# Altium footprint library Switch.PcbLib: 25 footprints (part 1 of 2)
Each footprint in its own frame and in the unit in brackets; x right, y up, seen from the top. Pads: shape width x height; smd on the part's side, far side on the other; paste and mask are expansions set on the pad; w line width, h text height; cw(c..) or ccw(c..) is an arc to the next point about the centre after c.
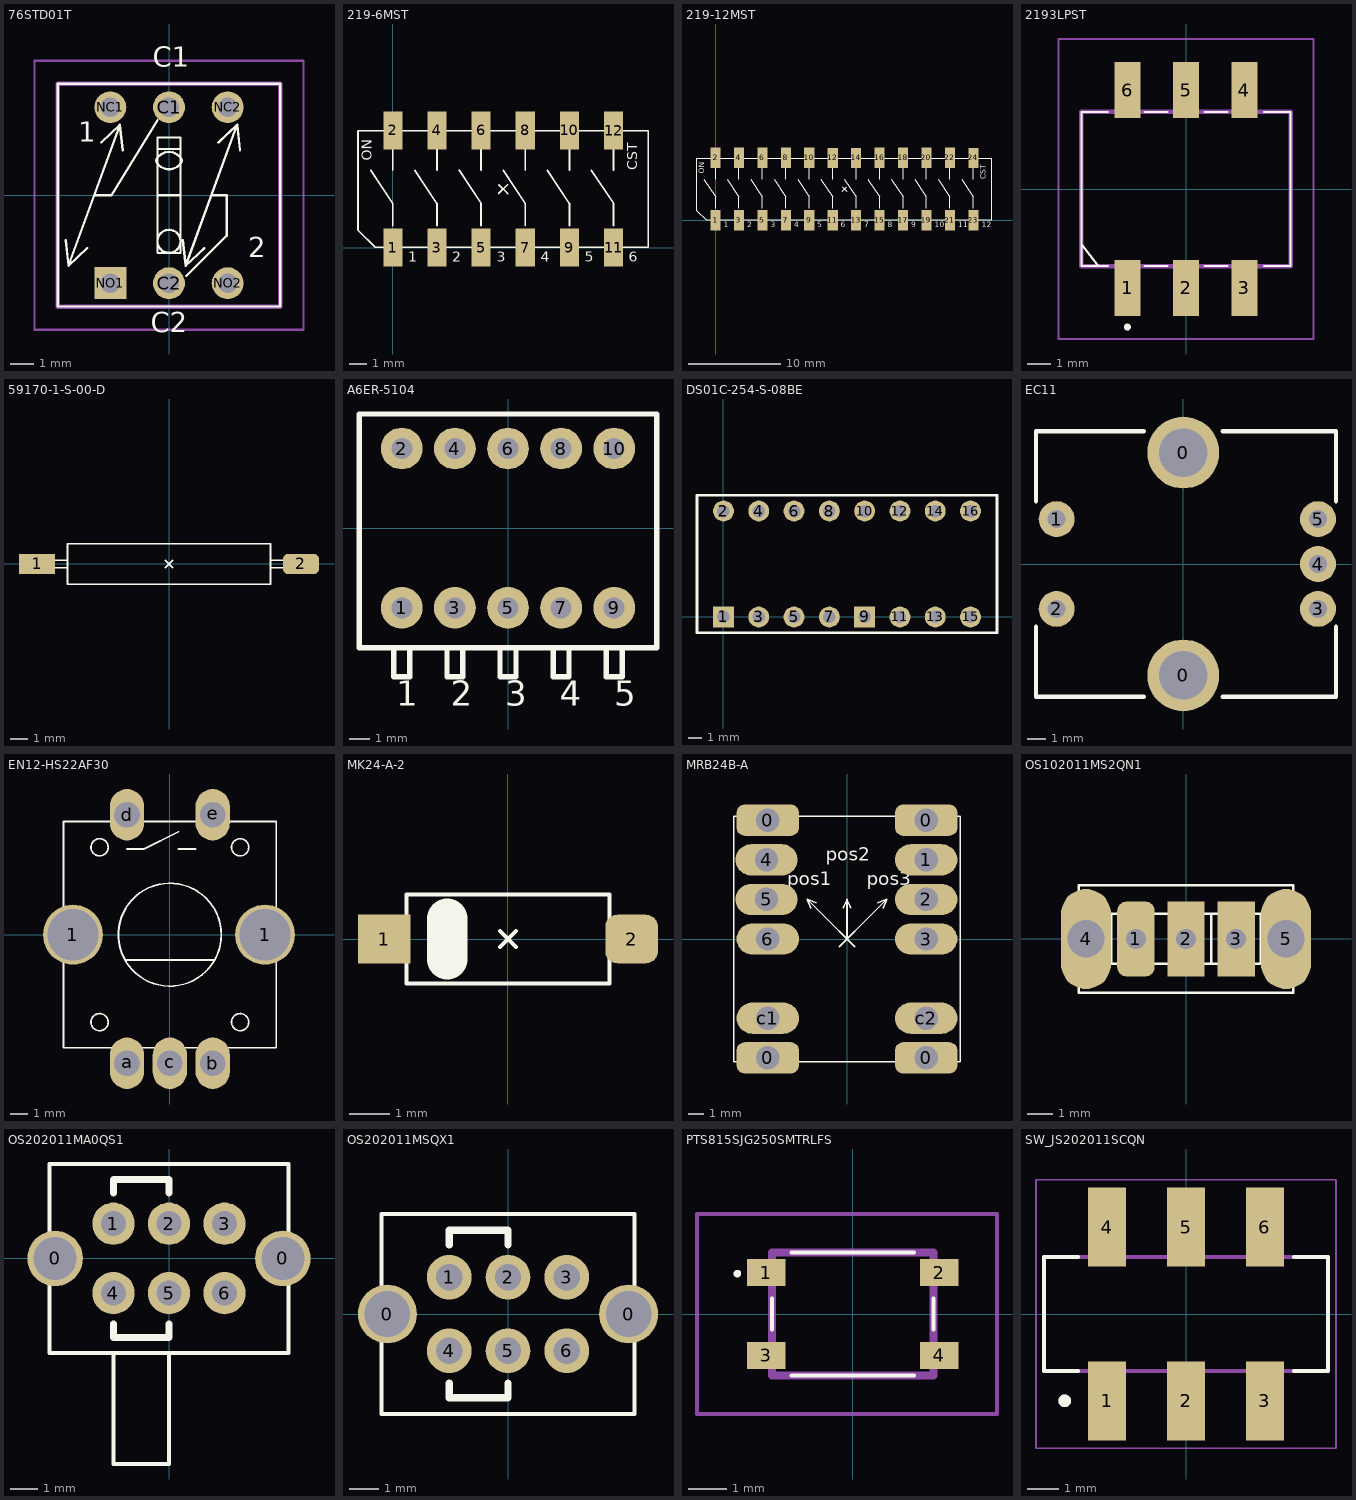
[diagram p0: the footprints below, top view; thin cyan lines are the x and y axes]

## 76STD01T [mm]
pads (6):
  round 1.381 hole 0.85: C1(0,3.81) C2(0,-3.81) NC1(-2.54,3.81) NC2(2.54,3.81) NO2(2.54,-3.81)
  rect 1.381x1.381 hole 0.85: NO1(-2.54,-3.81)
Top Overlay:
  circle w0.1: c0,-2 r0.5
  lines w0.1: -4.479,-1.943 -4.352,-3.054 ; -3.54,-2.285 -4.352,-3.054 ; -3.25,0 -2.5,0 -0.5,3.25 ; -2.94,2.285 -2.128,3.054 ; -2.001,1.943 -2.128,3.054 ; -0.5,0 0.5,0 ; -0.5,2 0.5,2 ; 0.601,-1.943 0.728,-3.054 ; 0.75,-3.5 2.5,-1.75 2.5,0 1.84,0 ; 1.54,-2.285 0.728,-3.054 ; 2.14,2.285 2.952,3.054 ; 3.079,1.943 2.952,3.054 ; -4.352,-3.054 -2.128,3.054 ; 0.728,-3.054 2.952,3.054 ; -4.825,-4.825 -4.825,4.825 4.825,4.825 4.825,-4.825 -4.825,-4.825 ; -0.5,-2.5 0.5,-2.5 0.5,2.5 -0.5,2.5 -0.5,-2.5 ; -0.5,1.375 ccw(c0,1.75) 0.5,1.375 ccw(c0.375,1.5) 0.5,1.625 ccw(c0,1.25) -0.5,1.625 ccw(c-0.375,1.5) -0.5,1.375
  text "С2" at -0.789,-6.231 h1.5
  text "С1" at -0.701,5.269 h1.5
  text "2" at 3.432,-2.982 h1.5
  text "1" at -3.927,2.018 h1.5
Mechanical 13:
  lines w0.2: -4.825,-4.825 -4.825,4.825 4.825,4.825 4.825,-4.825 -4.825,-4.825
Mechanical 15:
  lines w0.1: -5.825,-5.825 -5.825,5.825 5.825,5.825 5.825,-5.825 -5.825,-5.825
3D body "series76-toggle-dip.stp": height 11.8, standoff -3.46, extent -4.821,-4.819 4.829,4.831

## 219-6MST [mm]
pads (12):
  rect 1.1x2.2 smd: 1(0,0) 2(0,6.74) 3(2.54,0) 4(2.54,6.74) 5(5.08,0) 6(5.08,6.74) 7(7.62,0) 8(7.62,6.74) 9(10.16,0) 10(10.16,6.74) 11(12.7,0) 12(12.7,6.73)
Top Overlay:
  lines w0.1: -1.27,4.445 0,2.54 0,1.27 ; 0,4.445 0,5.715 ; 1.27,4.445 2.54,2.54 2.54,1.27 ; 2.54,4.445 2.54,5.715 ; 3.81,4.445 5.08,2.54 5.08,1.27 ; 5.08,4.445 5.08,5.715 ; 6.1,3.115 6.6,3.615 ; 6.1,3.615 6.6,3.115 ; 6.35,4.445 7.62,2.54 7.62,1.27 ; 7.62,4.445 7.62,5.715 ; 8.89,4.445 10.16,2.54 10.16,1.27 ; 10.16,4.445 10.16,5.715 ; 11.43,4.445 12.7,2.54 12.7,1.27 ; 12.7,4.445 12.7,5.715 ; -2.005,1.005 -2.005,6.715 14.705,6.715 14.705,0.015 -1.015,0.015 -2.005,1.005
  text "ON" at -1,5 h1
  text "1" at 0.889,-1.016 h1
  text "2" at 3.429,-1.016 h1
  text "3" at 5.969,-1.016 h1
  text "4" at 8.509,-1.016 h1
  text "5" at 11.049,-1.016 h1
  text "6" at 13.589,-1.016 h1
  text "CST" at 14.26,4.445 h1
3D body "CT2196MST-ND.stp": height 3.8, standoff 0, extent -2.005,-1.59 14.705,8.32

## 219-12MST [mm] "SWITCH SLIDE DIP SPST 100MA 20V"
height 4.33
pads (24):
  rect 1.1x2.2 smd: 1(0,0) 2(0,6.74) 3(2.54,0) 4(2.54,6.74) 5(5.08,0) 6(5.08,6.74) 7(7.62,0) 8(7.62,6.74) 9(10.16,0) 10(10.16,6.74) 11(12.7,0) 12(12.7,6.73) 13(15.24,0) 14(15.24,6.73) 15(17.78,0) 16(17.78,6.74) 17(20.32,0) 18(20.32,6.74) 19(22.86,0) 20(22.86,6.74) 21(25.4,0) 22(25.4,6.74) 23(27.94,0) 24(27.94,6.73)
Top Overlay:
  lines w0.1: -1.27,4.445 0,2.54 0,1.27 ; 0,4.445 0,5.715 ; 1.27,4.445 2.54,2.54 2.54,1.27 ; 2.54,4.445 2.54,5.715 ; 3.81,4.445 5.08,2.54 5.08,1.27 ; 5.08,4.445 5.08,5.715 ; 6.35,4.445 7.62,2.54 7.62,1.27 ; 7.62,4.445 7.62,5.715 ; 8.89,4.445 10.16,2.54 10.16,1.27 ; 10.16,4.445 10.16,5.715 ; 11.43,4.445 12.7,2.54 12.7,1.27 ; 12.7,4.445 12.7,5.715 ; 13.72,3.115 14.22,3.615 ; 13.72,3.615 14.22,3.115 ; 13.97,4.445 15.24,2.54 15.24,1.27 ; 15.24,4.445 15.24,5.715 ; 16.51,4.445 17.78,2.54 17.78,1.27 ; 17.78,4.445 17.78,5.715 ; 19.05,4.445 20.32,2.54 20.32,1.27 ; 20.32,4.445 20.32,5.715 ; 21.59,4.445 22.86,2.54 22.86,1.27 ; 22.86,4.445 22.86,5.715 ; 24.13,4.445 25.4,2.54 25.4,1.27 ; 25.4,4.445 25.4,5.715 ; 26.67,4.445 27.94,2.54 27.94,1.27 ; 27.94,4.445 27.94,5.715 ; -2.005,1.005 -1.015,0.015 29.945,0.015 29.945,6.715 -2.005,6.715 -2.005,1.005
  text "12" at 28.829,-1.016 h1
  text "11" at 26.289,-1.016 h1
  text "10" at 23.749,-1.016 h1
  text "9" at 21.209,-1.016 h1
  text "8" at 18.669,-1.016 h1
  text "7" at 16.129,-1.016 h1
  text "6" at 13.589,-1.016 h1
  text "5" at 11.049,-1.016 h1
  text "4" at 8.509,-1.016 h1
  text "3" at 5.969,-1.016 h1
  text "2" at 3.429,-1.016 h1
  text "1" at 0.889,-1.016 h1
  text "CST" at 29.5,4.445 h1
  text "ON" at -1,5 h1

## 2193LPST [mm]
pads (6):
  rect 1.13x2.44 smd: 1(-2.54,-4.3) 2(0,-4.3) 3(2.54,-4.3) 4(2.54,4.3) 5(0,4.3) 6(-2.54,4.3)
Top Overlay:
  lines w0.1: -4.545,-2.4 -3.8,-3.35 ; -4.545,-3.35 -3.4,-3.35 -4.545,-3.35 ; -4.545,-3.35 -4.545,3.35 ; -4.545,-3.35 -4.545,3.35 ; -4.545,3.35 -3.4,3.35 -4.545,3.35 ; 4.545,-3.35 3.4,-3.35 4.545,-3.35 ; 4.545,-3.35 4.545,3.35 ; 4.545,-3.35 4.545,3.35 ; 4.545,3.35 3.4,3.35 4.545,3.35 ; -1.8,-3.35 -0.8,-3.35 -1.8,-3.35 ; -1.8,3.35 -0.8,3.35 -1.8,3.35 ; 0.8,-3.35 1.8,-3.35 0.8,-3.35 ; 0.8,3.35 1.8,3.35 0.8,3.35
  lines w0.2: -2.6,-6 ccw(c-2.55,-6) -2.5,-6 ; -2.6,-6 cw(c-2.55,-6) -2.5,-6 ; -2.6,-6 ccw(c-2.55,-6) -2.5,-6
Mechanical 13:
  lines w0.2: -4.545,-3.35 -4.545,3.35 4.545,3.35 4.545,-3.35 -4.545,-3.35
Mechanical 15:
  lines w0.1: -5.545,-6.52 -5.545,6.52 5.545,6.52 5.545,-6.52 -5.545,-6.52
3D body "219-3poles.stp": height 4.28, standoff -0.02, extent -4.545,-4.955 4.545,4.955

## 59170-1-S-00-D [mm]
height 2.29
pads (2):
  rect 2.03x1.14 smd: 1(-7.425,0)
  rrect50% 2.03x1.14 smd: 2(7.425,0)
Top Overlay:
  lines w0.1: -0.2,-0.2 0.2,0.2 ; -0.2,0.2 0.2,-0.2 ; -8.125,-0.215 -8.125,0.215 -5.715,0.215 -5.715,-0.215 -8.125,-0.215 ; -5.715,-1.145 5.715,-1.145 5.715,1.145 -5.715,1.145 -5.715,-1.145 ; 5.715,-0.215 8.125,-0.215 8.125,0.215 5.715,0.215 5.715,-0.215
3D body: height 2.29, standoff 0, extent -5.715,-1.145 5.715,1.145

## A6ER-5104 [mm] "SWITCH PIANO DIP SPST 25MA 24V"
height 10.2
pads (10):
  round 2 hole 1: 1(-5.08,-3.81) 2(-5.08,3.81) 3(-2.54,-3.81) 4(-2.54,3.81) 5(0,-3.81) 6(0,3.81) 7(2.54,-3.81) 8(2.54,3.81) 9(5.08,-3.81) 10(5.08,3.81)
Top Overlay:
  lines w0.254: -5.461,-5.715 -5.461,-7.112 -4.699,-7.112 -4.699,-5.715 ; -2.921,-5.715 -2.921,-7.112 -2.159,-7.112 -2.159,-5.715 ; -0.381,-5.715 -0.381,-7.112 0.381,-7.112 0.381,-5.715 ; 2.159,-5.715 2.159,-7.112 2.921,-7.112 2.921,-5.715 ; 4.699,-5.715 4.699,-7.112 5.461,-7.112 5.461,-5.715 ; -7.112,-5.715 7.112,-5.715 7.112,5.461 -7.112,5.461 -7.112,-5.715
  text "1   2   3   4   5" at -5.334,-8.89 h2.03
3D body "19643.stp": height 11.4, standoff -2, extent -7.13,-7.2 7.13,5.4

## DS01C-254-S-08BE [mm]
pads (16):
  rect 1.5x1.5 hole 0.9: 1(0,0) 9(10.16,0)
  round 1.5 hole 0.9: 2(0,7.62) 3(2.54,0) 4(2.54,7.62) 5(5.08,0) 6(5.08,7.62) 7(7.62,0) 8(7.62,7.62) 10(10.16,7.62) 11(12.7,0) 12(12.7,7.62) 13(15.24,0) 14(15.24,7.62) 15(17.78,0) 16(17.78,7.62)
Top Overlay:
  lines w0.2: 8.255,-1.14 19.685,-1.14 19.685,8.76 8.255,8.76 ; 9.525,-1.14 -1.905,-1.14 -1.905,8.76 9.525,8.76
3D body "SWD1-4.step": height 7, standoff -3.7, extent 8.39,-1.14 19.55,8.76
3D body "SWD1-4.step": height 7, standoff -3.7, extent -1.77,-1.14 9.39,8.76

## EC11 [mm]
pads (7):
  round 4 hole 2.7: 0(0,-6.2) 0(0,6.2)
  round 2 hole 1: 1(-7.05,2.5) 2(-7.05,-2.5) 3(7.5,-2.5) 4(7.5,0) 5(7.5,2.5)
Top Overlay:
  lines w0.25: -8.2,-3.5 -8.2,-7.4 -2.2,-7.4 ; -8.2,3.5 -8.2,7.4 -2.2,7.4 ; 2.2,-7.4 8.5,-7.4 8.5,-3.5 ; 2.2,7.4 8.5,7.4 8.5,3.5
3D body "User Library-EC11B15244.STEP": height 31.6, standoff -3.47, extent -7.4,-6.549 7.726,6.549

## EN12-HS22AF30 [mm]
pads (7):
  round 3.5 hole 3: 1(-5.65,0) 1(5.55,0)
  oval 2x3 hole 1.5: a(-2.5,-7.5) b(2.5,-7.5) c(0,-7.5) d(-2.5,7) e(2.5,7)
Top Layer:
  lines w0.254: -6.6,0.95 -4.6,-1.05 ; -6.6,0.95 -6.6,1.05 ; -6.6,0.95 -6.6,1.05 ; -6.6,1.05 -4.6,1.05 -4.6,-1.05 ; -6.6,1.05 -6.6,-1.05 -4.6,-1.05 ; 4.6,0.95 4.6,1.05 ; 4.6,0.95 4.6,1.05 ; 4.6,0.95 6.6,-1.05 ; 4.6,1.05 4.6,-1.05 6.6,-1.05 ; 4.6,1.05 6.6,1.05 6.6,-1.05
Top Overlay:
  circle w0.1: c0,0 r3
  circle w0.1: c4.1,-5.1 r0.5
  circle w0.1: c-4.1,-5.1 r0.5
  circle w0.1: c4.1,5.1 r0.5
  circle w0.1: c-4.1,5.1 r0.5
  lines w0.1: -2.613,-1.473 2.613,-1.473 ; -2.5,5 -1.5,5 0.5,6 ; 0.5,5 1.5,5 ; -6.2,-6.6 6.2,-6.6 6.2,6.6 -6.2,6.6 -6.2,-6.6

## MK24-A-2 [mm]
height 1.8
pads (2):
  rect 1.3x1.2 smd: 1(-3.05,0)
  rrect50% 1.3x1.2 smd: 2(3.05,0)
Top Overlay:
  lines w0.1: -0.2,-0.2 0.2,0.2 ; -0.2,0.2 0.2,-0.2 ; -2.5,-1.1 -2.5,1.1 2.5,1.1 2.5,-1.1 -2.5,-1.1
  lines w1: -1.5,-0.5 -1.5,0.5
3D body: height 1.6, standoff 0, extent -2.5,-1.1 2.5,1.1

## MRB24B-A [mm]
pads (12):
  rrect50% 4x2 hole 1.5: 0(-5.08,-7.62) 0(-5.08,7.62) 0(5.08,-7.62) 0(5.08,7.62)
  oval 4x2 hole 1.5: 1(5.08,5.08) 2(5.08,2.54) 3(5.08,0) 4(-5.16,5.08) 5(-5.16,2.54) 6(-5.08,0) c1(-5.08,-5.08) c2(5.08,-5.08)
Top Overlay:
  lines w0.1: -2.335,1.981 -2.54,2.54 ; -1.981,2.335 -2.54,2.54 ; -0.5,-0.5 0.5,0.5 ; -0.5,0.5 0.5,-0.5 ; -0.25,2 0,2.54 ; 0.25,2 0,2.54 ; 1.981,2.335 2.54,2.54 ; 2.335,1.981 2.54,2.54 ; -2.54,2.54 0,0 ; -2.54,2.54 0,0 ; 0,0 0,2.54 ; 0,0 0,2.54 ; 0,0 2.54,2.54 ; -7.25,-7.87 -7.25,7.87 7.25,7.87 7.25,-7.87 -7.25,-7.87
  text "pos1" at -3.827,3.151 h1.5
  text "pos2" at -1.375,4.731 h1.5
  text "pos3" at 1.268,3.151 h1.5
3D body "MRB24B-A.stp": height 31.52, standoff -3.5, extent -9.496,-9.499 9.496,9.5

## OS102011MS2QN1 [mm] "SWITCH SLIDE SPDT 100MA 12V"
pads (5):
  rrect50% 1.5x3 hole 0.8: 1(-2,0)
  rect 1.5x3 hole 0.8: 2(0,0) 3(2,0)
  oval 2x4 hole 1.5: 4(-4,0) 5(4,0)
Top Overlay:
  lines w0.1: -0.2,0 0.2,0 ; 0,-0.2 0,0.2 ; 1,-1 1,1 ; 1.75,-1 1.75,1 ; 2.25,-1 2.25,1 ; -4.3,-2.15 4.3,-2.15 4.3,2.15 -4.3,2.15 -4.3,-2.15 ; -3,-1 3,-1 3,1 -3,1 -3,-1
3D body "User Library-OS102011MS2QN1.step": height 8, standoff -3.41, extent -4.3,-2.15 4.3,2.15

## OS202011MA0QS1 [mm]
pads (8):
  round 2 hole 1.55: 0(-4.1,0) 0(4.1,0)
  round 1.524 hole 0.9: 1(-2,1.25) 2(0,1.25) 3(2,1.25) 4(-2,-1.25) 5(0,-1.25) 6(2,-1.25)
Top Overlay:
  lines w0.15: -2,-3.45 -2,-7.4 0,-7.4 0,-3.5 ; -4.3,-3.4 -4.3,3.4 4.3,3.4 4.3,-3.4 -4.3,-3.4
  lines w0.25: -2,-2.35 -2,-2.85 0,-2.85 0,-2.35 ; -2,2.35 -2,2.85 0,2.85 0,2.35

## OS202011MSQX1 [mm]
pads (8):
  round 2 hole 1.55: 0(-4.1,0) 0(4.1,0)
  round 1.524 hole 0.9: 1(-2,1.25) 2(0,1.25) 3(2,1.25) 4(-2,-1.25) 5(0,-1.25) 6(2,-1.25)
Top Overlay:
  lines w0.15: -4.3,-3.4 4.3,-3.4 4.3,3.4 -4.3,3.4 -4.3,-3.4
  lines w0.25: -2,-2.35 -2,-2.85 0,-2.85 0,-2.35 ; -2,2.35 -2,2.85 0,2.85 0,2.35
3D body "os202011ms2qs1.step": height 8.7, standoff -2.8, extent -4.3,-3.4 4.3,3.4

## PTS815SJG250SMTRLFS [mm]
pads (4):
  rect 1x0.7 smd: 1(-2.25,1.075) 2(2.25,1.075) 3(-2.25,-1.075) 4(2.25,-1.075)
Top Overlay:
  lines w0.1: -2.1,-0.4 -2.1,0.4 ; -1.6,-1.6 1.6,-1.6 ; -1.6,1.6 1.6,1.6 ; 2.1,-0.4 2.1,0.4 ; -3,1 cw(c-3,1.05) -3,1.1 cw(c-3,1.05) -3,1
Mechanical 13:
  lines w0.2: -2.1,-1.6 -2.1,1.6 2.1,1.6 2.1,-1.6 -2.1,-1.6
Mechanical 15:
  lines w0.1: -4.05,-2.6 -4.05,2.6 3.75,2.6 3.75,-2.6 -4.05,-2.6
3D body "skrpade010.stp": height 2.5, standoff 0, extent -2.3,-1.6 2.3,1.6

## SW_JS202011SCQN [mm]
pads (6):
  rect 1.2x2.5 smd: 1(-2.5,-2.75) 2(0,-2.75) 3(2.5,-2.75) 4(-2.5,2.75) 5(0,2.75) 6(2.5,2.75)
Top Overlay:
  circle w0.2: c-3.84,-2.75 r0.1
  lines w0.127: -3.42,-1.8 -4.5,-1.8 -4.5,1.8 -3.42,1.8 ; 3.42,-1.8 4.5,-1.8 4.5,1.8 3.42,1.8
Mechanical 13:
  circle w0.2: c-3.84,-2.75 r0.1
  lines w0.127: -4.5,-1.8 4.5,-1.8 4.5,1.8 -4.5,1.8 -4.5,-1.8
Mechanical 15:
  lines w0.05: -4.75,-4.25 -4.75,4.25 4.75,4.25 4.75,-4.25 -4.75,-4.25
3D body "JS202011SCQN.step": height 5.51, standoff 0, extent -4.496,-3.746 4.496,3.746